# Altium integrated library InterceptorRS232.IntLib: 15 symbols
Pins are listed as number, name and electrical type; pins without a type are passive.

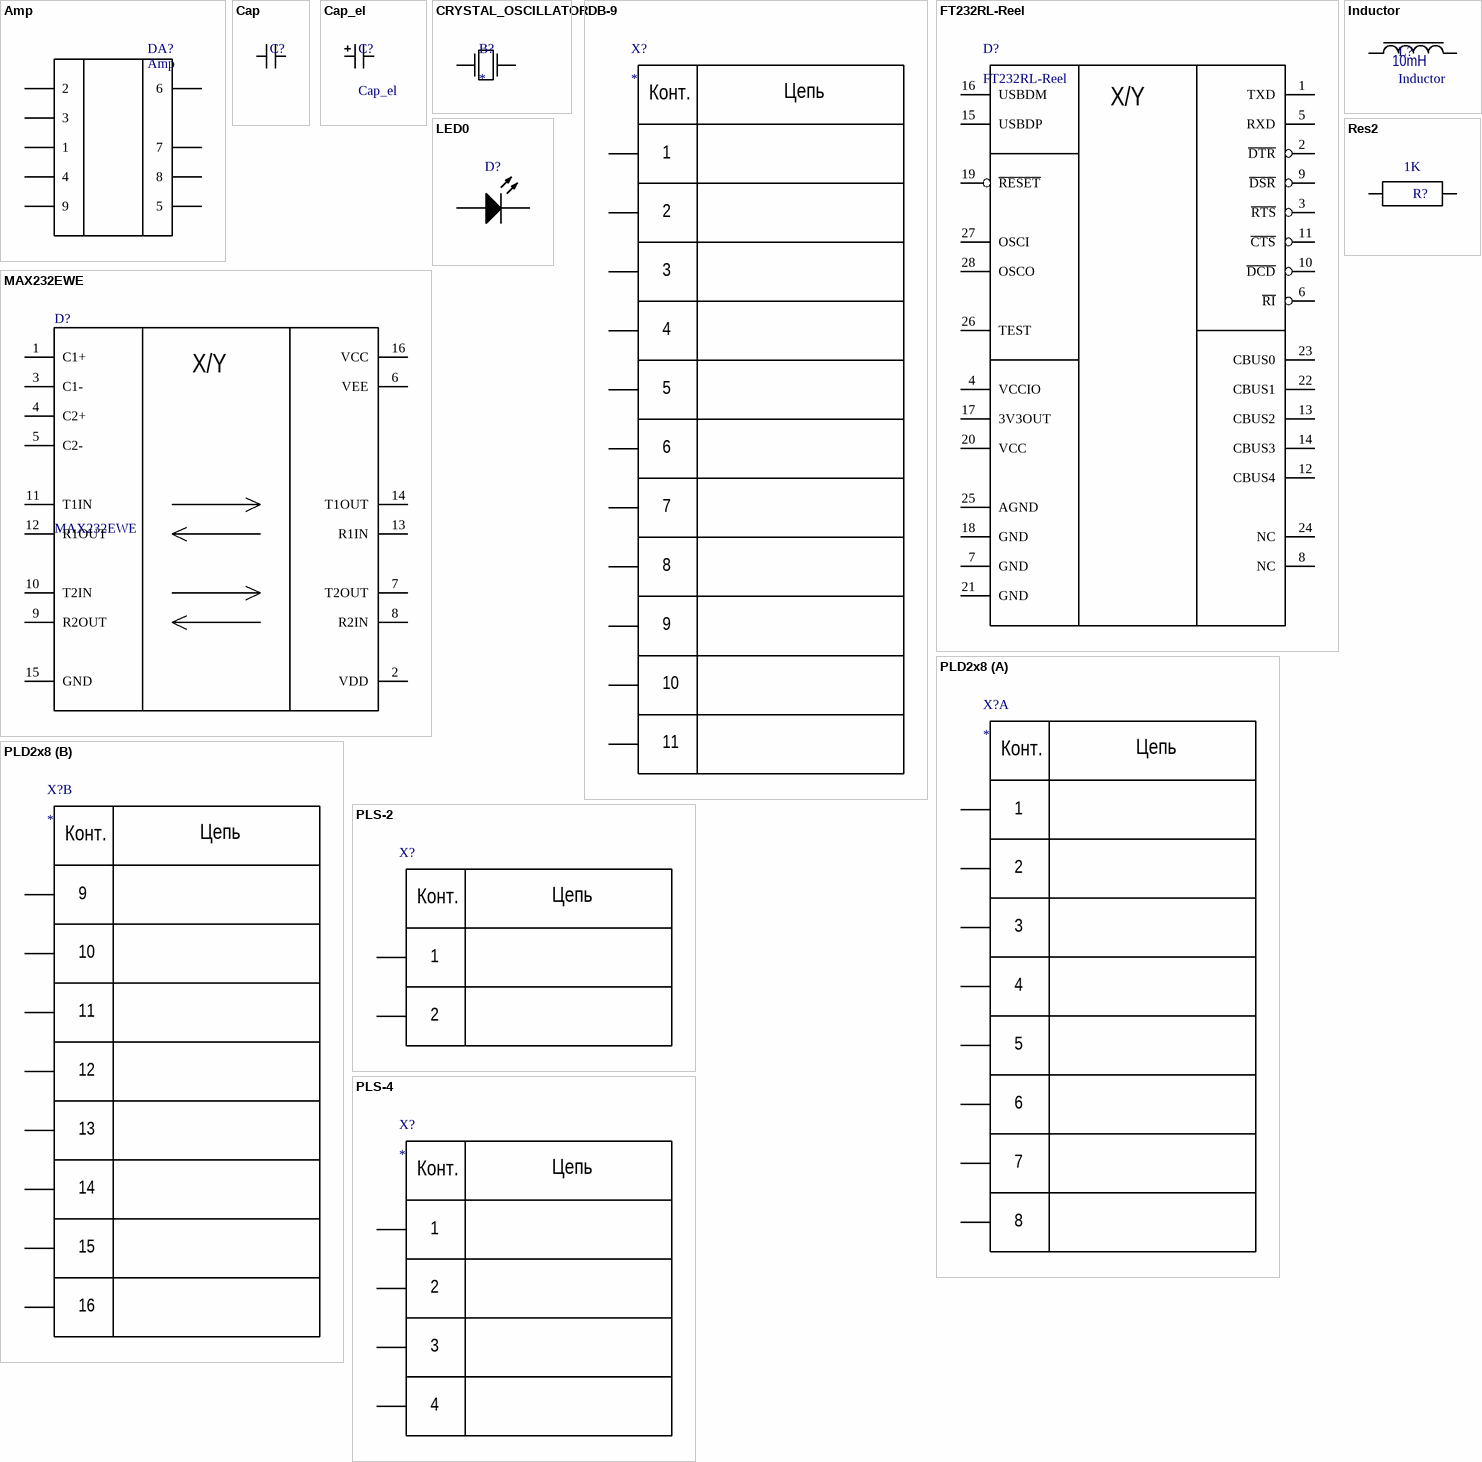
[diagram p0: symbols Amp to Res2]

## Amp
designator DA?
AF Amplifier; Published: 8-Jun-2000; LatestRevisionDate: 17-Jul-2002; LatestRevisionNote: Re-released for DXP Platform.; DatasheetVersion: REV. B; PackageVersion: 1990; PackageReference: H-08A; Publisher: Altium Limited; PackageDescription: Can; 8 Leads; Pin Circle Dia. 5.08 mm; Lead Dia. 0.53 mm (max); ComponentLink1Description: Manufacturer Link; ComponentLink1URL: http://www.analog.com/
footprint SIP9 (TO, Thru-Hole, Vertical, Heatsink Mounted; 9 In-Line Leads; Pitch 2.54 mm)
pins: 1, 2, 3, 4, 5 (power), 6, 7 (power), 8, 9

## Cap
designator C?
Capacitor; Published: 8-Jun-2000; LatestRevisionDate: 17-Jul-2002; LatestRevisionNote: Re-released for DXP Platform.; PackageReference: RAD-0.3; Publisher: Altium Limited; PackageDescription: Radial Cap, Thru-Hole; 2 Leads; 0.3 in Pin Spacing
simulation model CAP (Capacitor)
signal-integrity model Cap
footprint SMD-0805C
pins: 1, 2

## Cap_el
designator C?
Electrolytic capacitor; Published: 8-Jun-2000; LatestRevisionDate: 17-Jul-2002; LatestRevisionNote: Re-released for DXP Platform.; PackageReference: RAD-0.3; Publisher: Altium Limited; PackageDescription: Radial Cap, Thru-Hole; 2 Leads; 0.3 in Pin Spacing
footprint CAP_5x11 (Electorlytic capacitor 5x11; 2 Leads)
pins: 1, 2

## CRYSTAL_OSCILLATOR
designator B?
Crystal oscillator
footprint CSM-7 (Quartz Crystal, SM; 2 Leads; Body 11.4 x 4.8 x 5 mm (LxWxH))
pins: 1 OSCIN, 2 OSCOUT

## DB-9
designator X?
DB-9 connector
footprint DB-9F (Connector female; D Subminiature; 9 Position; Right Angle; Pitch 1.385 mm)
footprint DB-9M (Connector male; D Subminiature; 9 Position; Right Angle; Pitch 1.385 mm)
pins: 1, 2, 3, 4, 5, 6, 7, 8, 9, 10, 11
text: Конт.; Цепь

## FT232RL-Reel
designator D?
USB UART Asynchronous Serial Data Transfer Chip, SSOP-28, Tape and Reel; Published: 19-Aug-2010; DatasheetVersion: ver 2.07, Jul-2010; PackageVersion: 2010; PackageReference: SSOP-28; Publisher: Altium Limited; PackageDescription: 28-Pin Small Outline Package 0.65 mm Pitch; ComponentLink1Description: Manufacturer Link; ComponentLink1URL: http://www.ftdichip.com/Products/ICs/FT232R.htm; ComponentLink2Description: Datasheet; ComponentLink2URL: http://www.ftdichip.com/Support/Documents/DataSheets/ICs/DS_FT232R.pdf
footprint SSOP-28_M (SOP, 28-Leads, Body 10.2x5.3mm, Pitch 0.65mm, IPC Low Density)
pins: 1 TXD, 2 ~{DTR}, 3 ~{RTS}, 4 VCCIO (power), 5 RXD, 6 ~{RI}, 7 GND (power), 8 NC, 9 ~{DSR}, 10 ~{DCD}, 11 ~{CTS}, 12 CBUS4, 13 CBUS2, 14 CBUS3, 15 USBDP, 16 USBDM, 17 3V3OUT (power), 18 GND (power), 19 ~{RESET}, 20 VCC (power), 21 GND (power), 22 CBUS1, 23 CBUS0, 24 NC, 25 AGND (power), 26 TEST, 27 OSCI, 28 OSCO
text: X/Y

## Inductor
designator L?  value 10mH
Code_IEC: 1005; Published: 8-Jun-2000; LatestRevisionDate: 29-May-2009; LatestRevisionNote: IPC-7351 Footprint Added.; PackageReference: 0402-A; Publisher: Altium Limited; PackageDescription: Chip Inductor; Code_JEITA: 0402
simulation model INDUCTOR (Inductor)
signal-integrity model Inductor
footprint SMD-0805C
pins: 1, 2

## LED0
designator D?
Typical INFRARED GaAs LED; Published: 8-Jun-2000; LatestRevisionDate: 08-Jul-2005; LatestRevisionNote: Mech Layer 1 removed.; PackageReference: LED-0; Publisher: Altium Limited; PackageDescription: LED; 2 Leads
footprint LED_3mm (Photosensitive Diode; 2 Leads)
pins: 1 A, 2 K

## MAX232EWE
designator D?
+5V Powered RS-232 Driver/Receiver; Published: 16-Jan-2001; LatestRevisionDate: 13-Apr-2006; LatestRevisionNote: IPC-7351 Footprint Added.; DatasheetVersion: Apr-1992; PackageReference: WSO16; Publisher: Altium Limited; PackageDescription: 16-Pin Small Outline Integrated Circuit 1.27 mm Pitch; Code_JEDEC: MS-013-AA; Code_IPC: SOIC127P1030-16; ComponentLink1Description: Manufacturer Link; ComponentLink1URL: http://www.maxim-ic.com/; ComponentLink2Description: Datasheet; ComponentLink2URL: http://pdfserv.maxim-ic.com/en/ds/MAX220-MAX249.pdf
footprint SOP-16 (2.54 mm) (SOP; 16 Leads; Row Spacing 7.62 mm; Pitch 2.54 mm)
pins: 1 C1+, 2 VDD (power), 3 C1-, 4 C2+, 5 C2-, 6 VEE (power), 7 T2OUT, 8 R2IN, 9 R2OUT, 10 T2IN, 11 T1IN, 12 R1OUT, 13 R1IN, 14 T1OUT, 15 GND (power), 16 VCC (power)
text: X/Y

## PLD2x8
designator X?
PLD2x8 connector
footprint PLD2x8 (Connector; Header; 8x2 Position)
part A pins: 1, 2, 3, 4, 5, 6, 7, 8
part B pins: 9, 10, 11, 12, 13, 14, 15, 16
part A text: Конт.; Цепь
part B text: Конт.; Цепь

## PLS-2
designator X?  (value not drawn)
Connector PLS-2
footprint PLS-2 (Connector; Header; 2 Position)
pins: 1, 2
text: Конт.; Цепь

## PLS-4
designator X?
PLS-4 connector
footprint PLS-4 (Connector; Header; 4 Position)
pins: 1, 2, 3, 4
text: Конт.; Цепь

## Res2
designator R?  value 1K
Resistor; Published: 8-Jun-2000; LatestRevisionDate: 17-Jul-2002; LatestRevisionNote: Re-released for DXP Platform.; PackageReference: AXIAL-0.4; Publisher: Altium Limited; PackageDescription: Axial Device, Thru-Hole; 2 Leads; 0.4 in Pin Spacing
simulation model RESISTOR (Resistor)
signal-integrity model Res
footprint SMD-0805-RES
pins: 1, 2

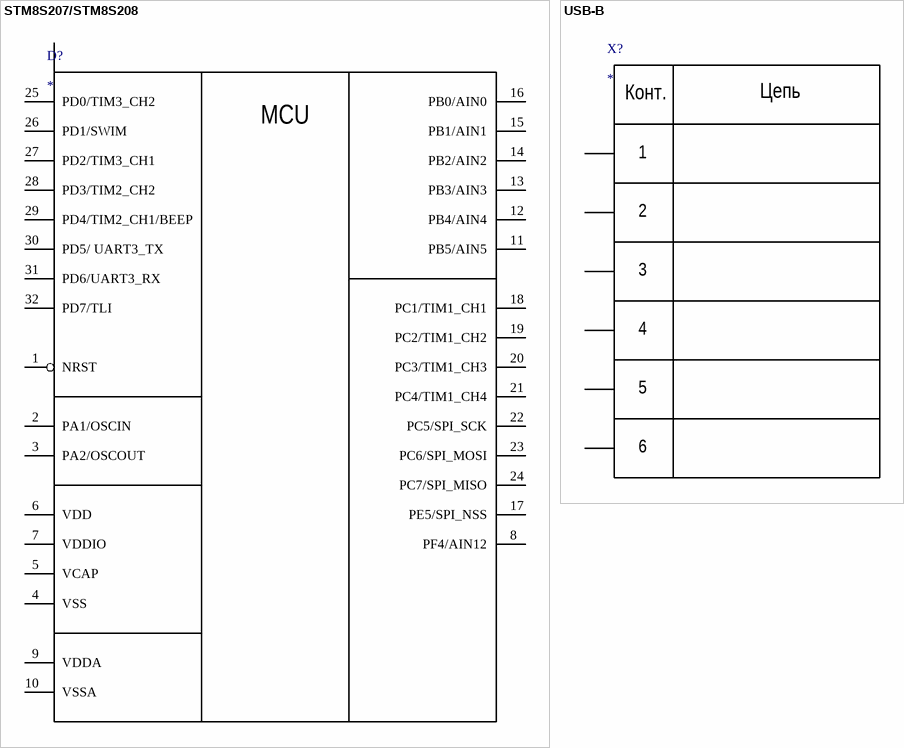
[diagram p1: symbols STM8S207/STM8S208 to USB-B]

## STM8S207/STM8S208
designator D?
8-bit STM8 MCU
footprint TQFP32_M (Thin QFP, 32-Leads, Body 7x7mm, Pitch 0.8mm, IPC Low Density)
pins: 1 NRST "Reset pin", 2 PA1/OSCIN "Port A1, Resonator/crystal in", 3 PA2/OSCOUT "Port A2, Resonator/crystal out", 4 VSS (power) "Digital ground", 5 VCAP (power) "1.8 V regulator capacitor", 6 VDD (power) "Digital power supply", 7 VDDIO (power) "I/O power supply", 8 PF4/AIN12 "Port F4, Analog input 12", 9 VDDA (power) "Analog power supply", 10 VSSA (power) "Analog ground", 11 PB5/AIN5 "Port B5, analog input 5", 12 PB4/AIN4 "Port B4, analog input 4", 13 PB3/AIN3 "Port B3, analog input 3", 14 PB2/AIN2 "Port B2, analog input 2", 15 PB1/AIN1 "Port B1, analog input 1", 16 PB0/AIN0 "Port B0, analog input 0", 17 PE5/SPI_NSS "Port E5, SPI master/slave select", 18 PC1/TIM1_CH1 "Port C1, Timer 1 - channel 1", 19 PC2/TIM1_CH2 "Port C2, Timer 1 - channel 2", 20 PC3/TIM1_CH3 "Port C3, Timer 1 - channel 3", 21 PC4/TIM1_CH4 "Port C4, Timer 1 - channel 4", 22 PC5/SPI_SCK "Port C5, SPI clock", 23 PC6/SPI_MOSI "Port C6, SPI master out/slave in", 24 PC7/SPI_MISO "Port C7, SPI master in/slave out", 25 PD0/TIM3_CH2 "Port D0, Timer 3 - channel 2", 26 PD1/SWIM "Port D1, SWIM data interface", 27 PD2/TIM3_CH1 "Port D2, Timer 3 - channel 1", 28 PD3/TIM2_CH2 "Port D3, Timer 2 - channel 2", 29 PD4/TIM2_CH1/BEEP "Port D4, Timer 2 - channel 1, BEEP output", 30 PD5/ UART3_TX "Port D5, UART3 data transmit", 31 PD6/UART3_RX "Port D6, UART3 data receive", 32 PD7/TLI "Port D7, Top level interrupt"
text: MCU

## USB-B
designator X?
USB-B connector
footprint FCI USB 61729-0010BLF
pins: 1, 2, 3, 4, 5, 6
text: Конт.; Цепь